# Altium integrated library RS1D.IntLib: 1 symbol
Pins are listed as number, name and electrical type; pins without a type are passive.

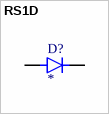
[diagram p0: symbol RS1D]

## RS1D
designator D?
1A, 50V - 1000V Fast Surface Mount Rectifier; MF: Taiwan Semiconductor; MP: RS1D; Package: DO-214AC-2 Taiwan Semiconductor; Price: None; Check_prices: https://www.snapeda.com/parts/RS1D/Taiwan+Semiconductor/view-part/?ref=eda; Value: *; SnapEDA_Link: https://www.snapeda.com/parts/RS1D/Taiwan+Semiconductor/view-part/?ref=snap; Availability: In Stock; Purchase-URL: https://pricing.snapeda.com/search/part/RS1D/?ref=eda
footprint DIOM4330X250N
pins: A, C K